# EAGLE library part LT1677CS8PBF (library MSA_lib)
1.1MHz, 0.4V/ìs Over-The-Top Micropower, Rail-To-Rail Input and Output Op Amp
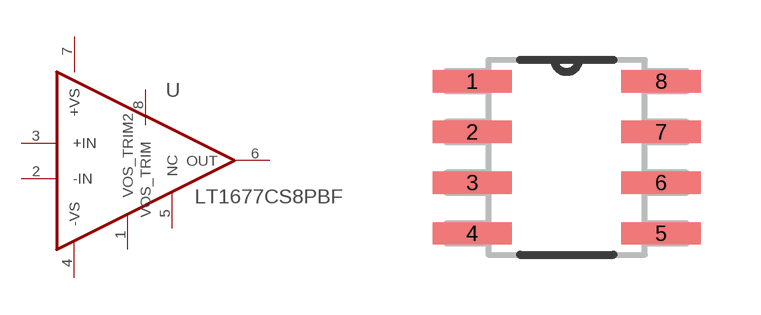
[diagram p14: symbol with the pads of SOIC127P600X175-8N_JDA2; footprint SOIC127P600X175-8N_JDA2]

Designator prefix U

## LT1677CS8PBF (MPN: LT1677CS8#PBF; OC_FARNELL: 1330687; OC_NEWARK: 57M5685; PACKAGE: SOIC-8; SUPPLIER: Linear Technology)  [SOIC127P600X175-8N_JDA2]
1  VOS_TRIM2  pas
2  -IN  in
3  +IN  in
4  -VS  pwr
5  NC  nc
6  OUT  out
7  +VS  pwr
8  VOS_TRIM  pas

## Footprint SOIC127P600X175-8N_JDA2 (pad centres in mm)
smd 1.981 x 0.559: 1 -2.362,1.905; 2 -2.362,0.635; 3 -2.362,-0.635; 4 -2.362,-1.905; 5 2.362,-1.905; 6 2.362,-0.635; 7 2.362,0.635; 8 2.362,1.905